# Altium schematic symbol library WS-ROTU.SchLib: 16 symbols
Pins are listed as number, name and electrical type; pins without a type are passive.

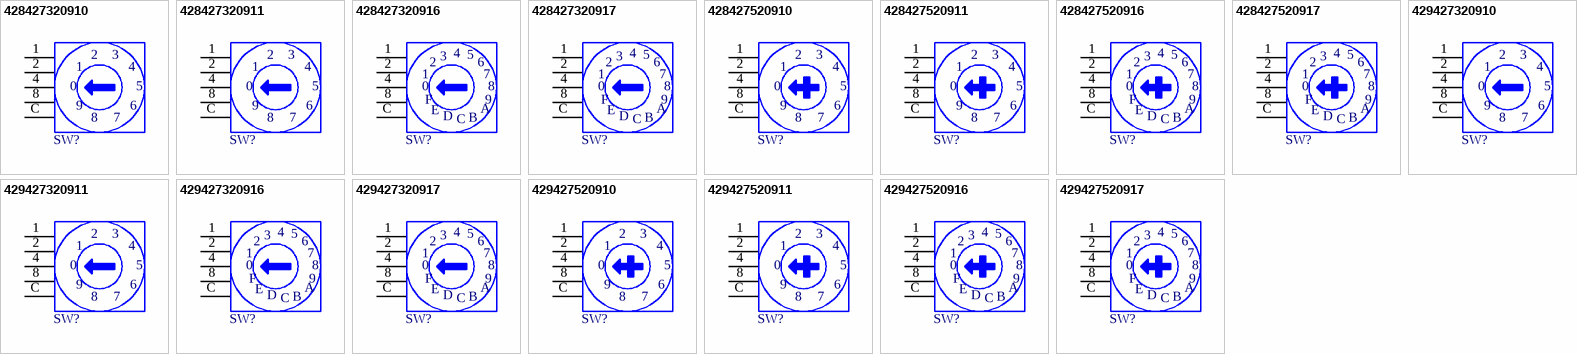
[diagram p0: symbols 428427320910 to 429427520917]

## 428427320910
designator SW?  (value not drawn)
WS-ROTU THT Rotary Switch Right Angled with Arrow Type Actuator, 10 x 9.8mm, Arrow Type, 10p; Manufacturer: Wurth Elektronik; Cover Material: PA66; Number of Positions: 10; Rated Current: 150mA; Rated Voltage: 24VDC; Washable: Yes; ComponentLink1Description: Website Link; ComponentLink1URL: https://www.we-online.com/redexpert/article/428427320910?ad; ComponentLink2Description: Datasheet Link; ComponentLink2URL: https://www.we-online.com/redexpert/spec/428427320910?ad; Manufacturer Part Number: 428427320910; Category: Rotary Switches; Match Code: WS-ROTU; Mount: Through Hole; Operating Temperature Max: 85°C; Operating Temperature Min: -40°C; Packaging: Tube; Length: 10mm; Width: 9.8mm; Height: 10mm; Actuator Type: Arrow Type; Terminal Plating: Gold
footprint 42842732091x_10p
pins: 1, 2, 4, 8, C
text: 3; 0; 5; 9; 6; 7

## 428427320911
designator SW?  (value not drawn)
WS-ROTU THT Rotary Switch Right Angled with Arrow Type Actuator, 10 x 9.8mm, Arrow Type, 10p; Manufacturer: Wurth Elektronik; Cover Material: PA66; Number of Positions: 10; Rated Current: 150mA; Rated Voltage: 24VDC; Washable: Yes; ComponentLink1Description: Website Link; ComponentLink1URL: https://www.we-online.com/redexpert/article/428427320911?ad; ComponentLink2Description: Datasheet Link; ComponentLink2URL: https://www.we-online.com/redexpert/spec/428427320911?ad; Manufacturer Part Number: 428427320911; Category: Rotary Switches; Match Code: WS-ROTU; Mount: Through Hole; Operating Temperature Max: 85°C; Operating Temperature Min: -40°C; Packaging: Tube; Length: 10mm; Width: 9.8mm; Height: 10mm; Actuator Type: Arrow Type; Terminal Plating: Gold
footprint 42842732091x_10p
pins: 1, 2, 4, 8, C
text: 3; 0; 5; 9; 6; 7

## 428427320916
designator SW?  (value not drawn)
WS-ROTU THT Rotary Switch Right Angled with Arrow Type Actuator, 10 x 9.8mm, Arrow Type, 16p; Manufacturer: Wurth Elektronik; Cover Material: PA66; Number of Positions: 16; Rated Current: 150mA; Rated Voltage: 24VDC; Washable: Yes; ComponentLink1Description: Website Link; ComponentLink1URL: https://www.we-online.com/redexpert/article/428427320916?ad; ComponentLink2Description: Datasheet Link; ComponentLink2URL: https://www.we-online.com/redexpert/spec/428427320916?ad; Manufacturer Part Number: 428427320916; Category: Rotary Switches; Match Code: WS-ROTU; Mount: Through Hole; Operating Temperature Max: 85°C; Operating Temperature Min: -40°C; Packaging: Tube; Length: 10mm; Width: 9.8mm; Height: 10mm; Actuator Type: Arrow Type; Terminal Plating: Gold
footprint 42842732091x_16p
pins: 1, 2, 4, 8, C
text: 3; 5; 6; 7; 0; F; 9; E; A; D; B

## 428427320917
designator SW?  (value not drawn)
WS-ROTU THT Rotary Switch Right Angled with Arrow Type Actuator, 10 x 9.8mm, Arrow Type, 16p; Manufacturer: Wurth Elektronik; Cover Material: PA66; Number of Positions: 16; Rated Current: 150mA; Rated Voltage: 24VDC; Washable: Yes; ComponentLink1Description: Website Link; ComponentLink1URL: https://www.we-online.com/redexpert/article/428427320917?ad; ComponentLink2Description: Datasheet Link; ComponentLink2URL: https://www.we-online.com/redexpert/spec/428427320917?ad; Manufacturer Part Number: 428427320917; Category: Rotary Switches; Match Code: WS-ROTU; Mount: Through Hole; Operating Temperature Max: 85°C; Operating Temperature Min: -40°C; Packaging: Tube; Length: 10mm; Width: 9.8mm; Height: 10mm; Actuator Type: Arrow Type; Terminal Plating: Gold
footprint 42842732091x_16p
pins: 1, 2, 4, 8, C
text: 3; 5; 6; 7; 0; F; 9; E; A; D; B

## 428427520910
designator SW?  (value not drawn)
WS-ROTU THT Rotary Switch Right Angled with Cross Type Actuator, 10 x 9.8mm, Cross Type, 10p; Manufacturer: Wurth Elektronik; Cover Material: PA66; Number of Positions: 10; Rated Current: 150mA; Rated Voltage: 24VDC; Washable: Yes; ComponentLink1Description: Website Link; ComponentLink1URL: https://www.we-online.com/redexpert/article/428427520910?ad; ComponentLink2Description: Datasheet Link; ComponentLink2URL: https://www.we-online.com/redexpert/spec/428427520910?ad; Manufacturer Part Number: 428427520910; Category: Rotary Switches; Match Code: WS-ROTU; Mount: Through Hole; Operating Temperature Max: 85°C; Operating Temperature Min: -40°C; Packaging: Tube; Length: 10mm; Width: 9.8mm; Height: 10mm; Actuator Type: Cross Type; Terminal Plating: Gold
footprint 42842752091x_10p
pins: 1, 2, 4, 8, C
text: 3; 0; 5; 9; 6; 7

## 428427520911
designator SW?  (value not drawn)
WS-ROTU THT Rotary Switch Right Angled with Cross Type Actuator, 10 x 9.8mm, Cross Type, 10p; Manufacturer: Wurth Elektronik; Cover Material: PA66; Number of Positions: 10; Rated Current: 150mA; Rated Voltage: 24VDC; Washable: Yes; ComponentLink1Description: Website Link; ComponentLink1URL: https://www.we-online.com/redexpert/article/428427520911?ad; ComponentLink2Description: Datasheet Link; ComponentLink2URL: https://www.we-online.com/redexpert/spec/428427520911?ad; Manufacturer Part Number: 428427520911; Category: Rotary Switches; Match Code: WS-ROTU; Mount: Through Hole; Operating Temperature Max: 85°C; Operating Temperature Min: -40°C; Packaging: Tube; Length: 10mm; Width: 9.8mm; Height: 10mm; Actuator Type: Cross Type; Terminal Plating: Gold
footprint 42842752091x_10p
pins: 1, 2, 4, 8, C
text: 3; 0; 5; 9; 6; 7

## 428427520916
designator SW?  (value not drawn)
WS-ROTU THT Rotary Switch Right Angled with Cross Type Actuator, 10 x 9.8mm, Cross Type, 16p; Manufacturer: Wurth Elektronik; Cover Material: PA66; Number of Positions: 16; Rated Current: 150mA; Rated Voltage: 24VDC; Washable: Yes; ComponentLink1Description: Website Link; ComponentLink1URL: https://www.we-online.com/redexpert/article/428427520916?ad; ComponentLink2Description: Datasheet Link; ComponentLink2URL: https://www.we-online.com/redexpert/spec/428427520916?ad; Manufacturer Part Number: 428427520916; Category: Rotary Switches; Match Code: WS-ROTU; Mount: Through Hole; Operating Temperature Max: 85°C; Operating Temperature Min: -40°C; Packaging: Tube; Length: 10mm; Width: 9.8mm; Height: 10mm; Actuator Type: Cross Type; Terminal Plating: Gold
footprint 42842752091x_16p
pins: 1, 2, 4, 8, C
text: 3; 5; 6; 7; 0; F; 9; E; A; D; B

## 428427520917
designator SW?  (value not drawn)
WS-ROTU THT Rotary Switch Right Angled with Cross Type Actuator, 10 x 9.8mm, Cross Type, 16p; Manufacturer: Wurth Elektronik; Cover Material: PA66; Number of Positions: 16; Rated Current: 150mA; Rated Voltage: 24VDC; Washable: Yes; ComponentLink1Description: Website Link; ComponentLink1URL: https://www.we-online.com/redexpert/article/428427520917?ad; ComponentLink2Description: Datasheet Link; ComponentLink2URL: https://www.we-online.com/redexpert/spec/428427520917?ad; Manufacturer Part Number: 428427520917; Category: Rotary Switches; Match Code: WS-ROTU; Mount: Through Hole; Operating Temperature Max: 85°C; Operating Temperature Min: -40°C; Packaging: Tube; Length: 10mm; Width: 9.8mm; Height: 10mm; Actuator Type: Cross Type; Terminal Plating: Gold
footprint 42842752091x_16p
pins: 1, 2, 4, 8, C
text: 3; 5; 6; 7; 0; F; 9; E; A; D; B

## 429427320910
designator SW?  (value not drawn)
WS-ROTU THT Rotary Switch Right Angled with Arrow Type Actuator, 12.3 x 10mm, Arrow Type, 10p; Manufacturer: Wurth Elektronik; Cover Material: PA66; Number of Positions: 10; Rated Current: 150mA; Rated Voltage: 24VDC; Washable: Yes; ComponentLink1Description: Website Link; ComponentLink1URL: https://www.we-online.com/redexpert/article/429427320910?ad; ComponentLink2Description: Datasheet Link; ComponentLink2URL: https://www.we-online.com/redexpert/spec/429427320910?ad; Manufacturer Part Number: 429427320910; Category: Rotary Switches; Match Code: WS-ROTU; Mount: Through Hole; Operating Temperature Max: 85°C; Operating Temperature Min: -40°C; Packaging: Tube; Length: 12.3mm; Width: 10mm; Height: 10mm; Actuator Type: Arrow Type; Terminal Plating: Gold
footprint 42942732091x_10p
pins: 1, 2, 4, 8, C
text: 3; 0; 5; 9; 6; 7

## 429427320911
designator SW?  (value not drawn)
WS-ROTU THT Rotary Switch Right Angled with Arrow Type Actuator, 12.3 x 10mm, Arrow Type, 10p; Manufacturer: Wurth Elektronik; Cover Material: PA66; Number of Positions: 10; Rated Current: 150mA; Rated Voltage: 24VDC; Washable: Yes; ComponentLink1Description: Website Link; ComponentLink1URL: https://www.we-online.com/redexpert/article/429427320911?ad; ComponentLink2Description: Datasheet Link; ComponentLink2URL: https://www.we-online.com/redexpert/spec/429427320911?ad; Manufacturer Part Number: 429427320911; Category: Rotary Switches; Match Code: WS-ROTU; Mount: Through Hole; Operating Temperature Max: 85°C; Operating Temperature Min: -40°C; Packaging: Tube; Length: 12.3mm; Width: 10mm; Height: 10mm; Actuator Type: Arrow Type; Terminal Plating: Gold
footprint 42942732091x_10p
pins: 1, 2, 4, 8, C
text: 3; 0; 5; 9; 6; 7

## 429427320916
designator SW?  (value not drawn)
WS-ROTU THT Rotary Switch Right Angled with Arrow Type Actuator, 12.3 x 10mm, Arrow Type, 16p; Manufacturer: Wurth Elektronik; Cover Material: PA66; Number of Positions: 16; Rated Current: 150mA; Rated Voltage: 24VDC; Washable: Yes; ComponentLink1Description: Website Link; ComponentLink1URL: https://www.we-online.com/redexpert/article/429427320916?ad; ComponentLink2Description: Datasheet Link; ComponentLink2URL: https://www.we-online.com/redexpert/spec/429427320916?ad; Manufacturer Part Number: 429427320916; Category: Rotary Switches; Match Code: WS-ROTU; Mount: Through Hole; Operating Temperature Max: 85°C; Operating Temperature Min: -40°C; Packaging: Tube; Length: 12.3mm; Width: 10mm; Height: 10mm; Actuator Type: Arrow Type; Terminal Plating: Gold
footprint 42942732091x_16p
pins: 1, 2, 4, 8, C
text: 3; 5; 6; 7; 0; F; 9; E; A; D; B

## 429427320917
designator SW?  (value not drawn)
WS-ROTU THT Rotary Switch Right Angled with Arrow Type Actuator, 12.3 x 10mm, Arrow Type, 16p; Manufacturer: Wurth Elektronik; Cover Material: PA66; Number of Positions: 16; Rated Current: 150mA; Rated Voltage: 24VDC; Washable: Yes; ComponentLink1Description: Website Link; ComponentLink1URL: https://www.we-online.com/redexpert/article/429427320917?ad; ComponentLink2Description: Datasheet Link; ComponentLink2URL: https://www.we-online.com/redexpert/spec/429427320917?ad; Manufacturer Part Number: 429427320917; Category: Rotary Switches; Match Code: WS-ROTU; Mount: Through Hole; Operating Temperature Max: 85°C; Operating Temperature Min: -40°C; Packaging: Tube; Length: 12.3mm; Width: 10mm; Height: 10mm; Actuator Type: Arrow Type; Terminal Plating: Gold
footprint 42942732091x_16p
pins: 1, 2, 4, 8, C
text: 3; 5; 6; 7; 0; F; 9; E; A; D; B

## 429427520910
designator SW?  (value not drawn)
WS-ROTU THT Rotary Switch Right Angled with Cross Type Actuator, 12.3 x 10mm, Cross Type, 10p; Manufacturer: Wurth Elektronik; Cover Material: PA66; Number of Positions: 10; Rated Current: 150mA; Rated Voltage: 24VDC; Washable: Yes; ComponentLink1Description: Website Link; ComponentLink1URL: https://www.we-online.com/redexpert/article/429427520910?ad; ComponentLink2Description: Datasheet Link; ComponentLink2URL: https://www.we-online.com/redexpert/spec/429427520910?ad; Manufacturer Part Number: 429427520910; Category: Rotary Switches; Match Code: WS-ROTU; Mount: Through Hole; Operating Temperature Max: 85°C; Operating Temperature Min: -40°C; Packaging: Tube; Length: 12.3mm; Width: 10mm; Height: 10mm; Actuator Type: Cross Type; Terminal Plating: Gold
footprint 42942752091x_10p
pins: 1, 2, 4, 8, C
text: 3; 0; 5; 9; 6; 7

## 429427520911
designator SW?  (value not drawn)
WS-ROTU THT Rotary Switch Right Angled with Cross Type Actuator, 12.3 x 10mm, Cross Type, 10p; Manufacturer: Wurth Elektronik; Cover Material: PA66; Number of Positions: 10; Rated Current: 150mA; Rated Voltage: 24VDC; Washable: Yes; ComponentLink1Description: Website Link; ComponentLink1URL: https://www.we-online.com/redexpert/article/429427520911?ad; ComponentLink2Description: Datasheet Link; ComponentLink2URL: https://www.we-online.com/redexpert/spec/429427520911?ad; Manufacturer Part Number: 429427520911; Category: Rotary Switches; Match Code: WS-ROTU; Mount: Through Hole; Operating Temperature Max: 85°C; Operating Temperature Min: -40°C; Packaging: Tube; Length: 12.3mm; Width: 10mm; Height: 10mm; Actuator Type: Cross Type; Terminal Plating: Gold
footprint 42942752091x_10p
pins: 1, 2, 4, 8, C
text: 3; 0; 5; 9; 6; 7

## 429427520916
designator SW?  (value not drawn)
WS-ROTU THT Rotary Switch Right Angled with Cross Type Actuator, 12.3 x 10mm, Cross Type, 16p; Manufacturer: Wurth Elektronik; Cover Material: PA66; Number of Positions: 16; Rated Current: 150mA; Rated Voltage: 24VDC; Washable: Yes; ComponentLink1Description: Website Link; ComponentLink1URL: https://www.we-online.com/redexpert/article/429427520916?ad; ComponentLink2Description: Datasheet Link; ComponentLink2URL: https://www.we-online.com/redexpert/spec/429427520916?ad; Manufacturer Part Number: 429427520916; Category: Rotary Switches; Match Code: WS-ROTU; Mount: Through Hole; Operating Temperature Max: 85°C; Operating Temperature Min: -40°C; Packaging: Tube; Length: 12.3mm; Width: 10mm; Height: 10mm; Actuator Type: Cross Type; Terminal Plating: Gold
footprint 42942752091x_16p
pins: 1, 2, 4, 8, C
text: 3; 5; 6; 7; 0; F; 9; E; A; D; B

## 429427520917
designator SW?  (value not drawn)
WS-ROTU THT Rotary Switch Right Angled with Cross Type Actuator, 12.3 x 10mm, Cross Type, 16p; Manufacturer: Wurth Elektronik; Cover Material: PA66; Number of Positions: 16; Rated Current: 150mA; Rated Voltage: 24VDC; Washable: Yes; ComponentLink1Description: Website Link; ComponentLink1URL: https://www.we-online.com/redexpert/article/429427520917?ad; ComponentLink2Description: Datasheet Link; ComponentLink2URL: https://www.we-online.com/redexpert/spec/429427520917?ad; Manufacturer Part Number: 429427520917; Category: Rotary Switches; Match Code: WS-ROTU; Mount: Through Hole; Operating Temperature Max: 85°C; Operating Temperature Min: -40°C; Packaging: Tube; Length: 12.3mm; Width: 10mm; Height: 10mm; Actuator Type: Cross Type; Terminal Plating: Gold
footprint 42942752091x_16p
pins: 1, 2, 4, 8, C
text: 3; 5; 6; 7; 0; F; 9; E; A; D; B